# Altium footprint library Аналоговые-mm.PcbLib: 44 footprints (part 1 of 3)
Each footprint in its own frame and in the unit in brackets; x right, y up, seen from the top. Pads: shape width x height; smd on the part's side, far side on the other; paste and mask are expansions set on the pad; w line width, h text height; cw(c..) or ccw(c..) is an arc to the next point about the centre after c.
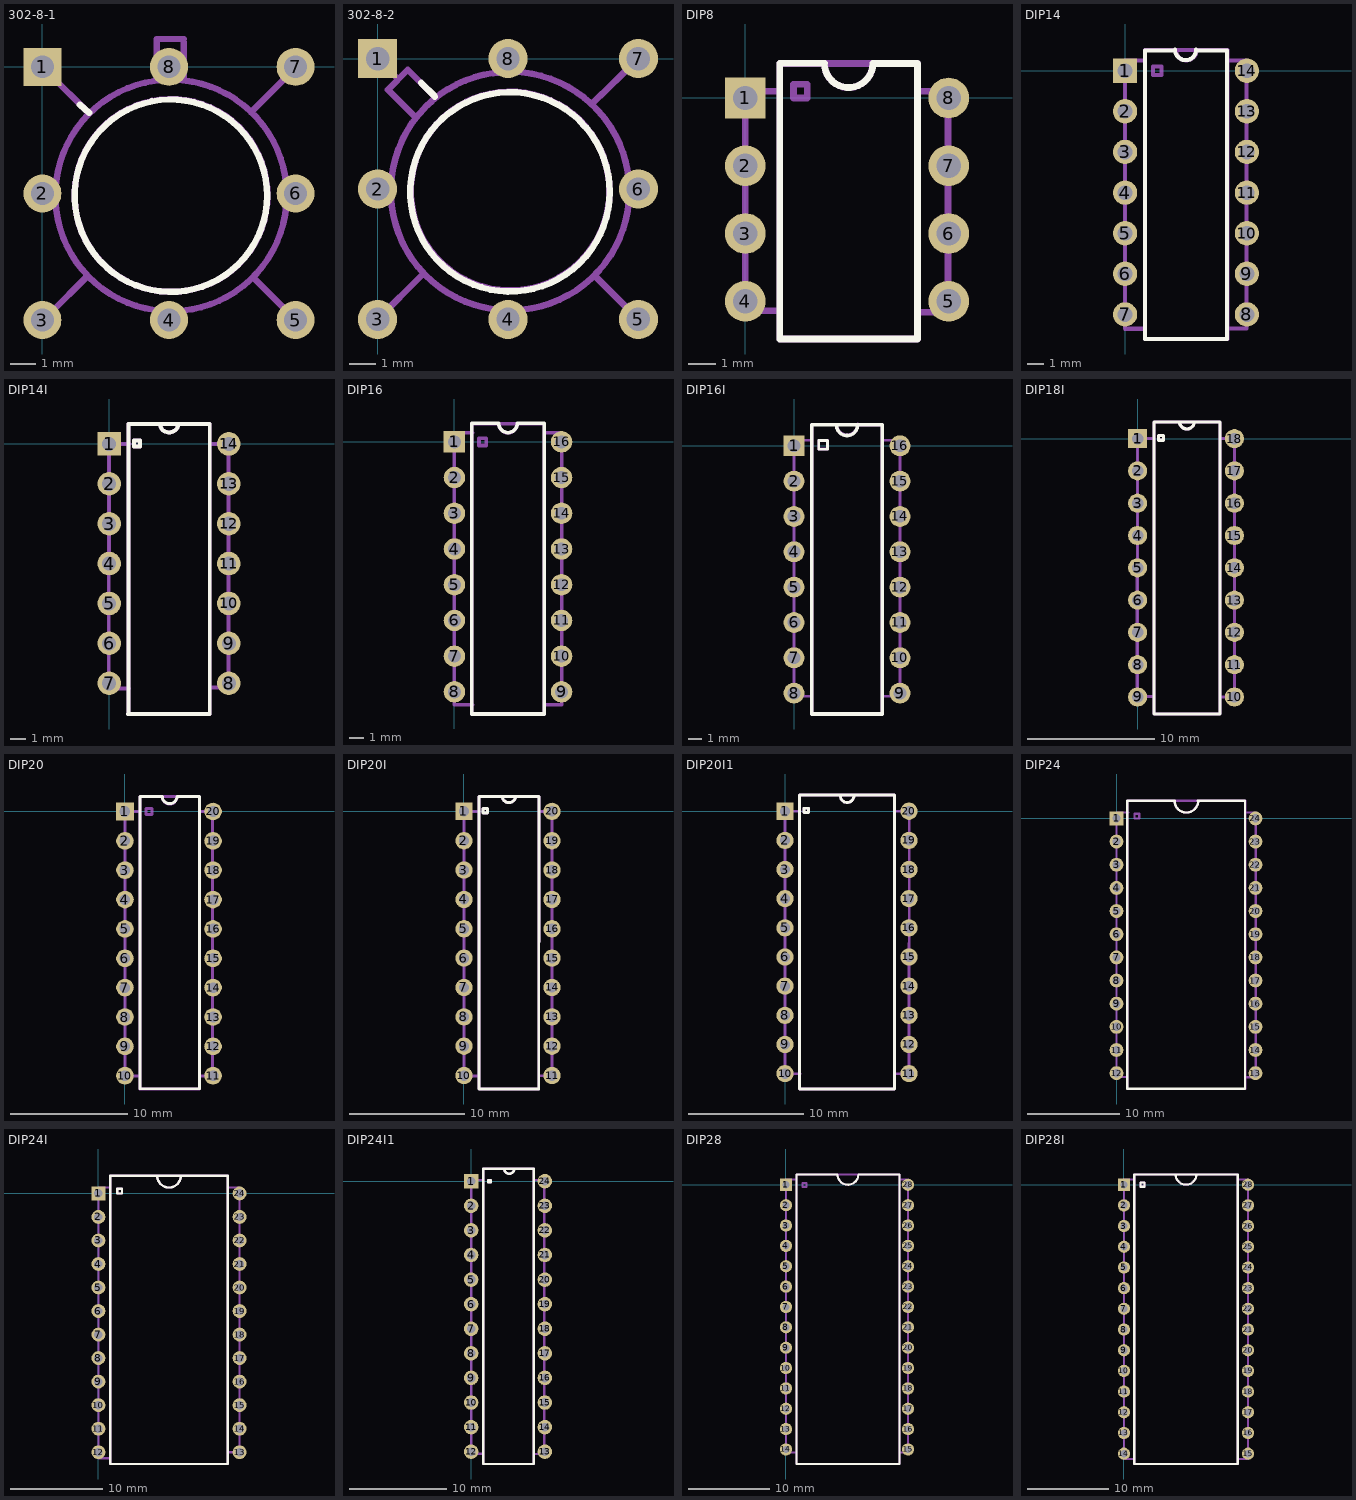
[diagram p0: the footprints below, top view; thin cyan lines are the x and y axes]

## 302-8-1 [mm]
pads (8):
  rect 1.5x1.5 hole 0.9: 1(0,0)
  round 1.5 hole 0.9: 2(0,-5) 3(0,-10) 4(5,-10) 5(10,-10) 6(10,-5) 7(10,0) 8(5,0)
Top Overlay:
  circle w0.25: c5.075,-5.09 r3.8
  lines w0.25: 1.475,-1.495 1.85,-1.82
Mechanical 1:
  circle w0.25: c5.08,-5.08 r4.572
  circle w0.25: c5.08,-5.08 r3.81
  lines w0.25: 0.22,-5.08 0.45,-5.08 ; 0.27,-0.27 1.84,-1.84 ; 0.29,-9.75 1.78,-8.26 ; 4.51,-0.409 4.51,1.099 5.588,1.099 ; 5,-0.51 5.01,-0.24 ; 5.03,-9.92 5.03,-9.67 ; 5.588,-0.464 5.588,0.972 ; 8.24,-1.79 9.76,-0.27 ; 8.32,-8.31 9.64,-9.63 ; 9.66,-5.03 9.85,-5.02

## 302-8-2 [mm]
pads (8):
  rect 1.5x1.5 hole 0.9: 1(0,0)
  round 1.5 hole 0.9: 2(0,-5) 3(0,-10) 4(5,-10) 5(10,-10) 6(10,-5) 7(10,0) 8(5,0)
Top Overlay:
  circle w0.25: c5.075,-5.11 r3.82
  lines w0.25: 1.67,-0.935 2.2,-1.455
Mechanical 1:
  circle w0.25: c5.08,-5.08 r4.572
  circle w0.25: c5.08,-5.08 r3.81
  lines w0.25: 0,-10 1.75,-8.25 ; 0,-5 0.45,-5 ; 0,0 0.79,-0.795 ; 1.466,-2.259 0.399,-1.192 1.161,-0.43 2.177,-1.446 ; 5,-10 5,-9.65 ; 5,-0.5 5,0 ; 8.2,-1.75 10,0 ; 8.35,-8.35 10,-10 ; 9.65,-5 10,-5

## DIP8 [mm]
pads (8):
  rect 1.5x1.5 hole 0.9: 1(0,0)
  round 1.5 hole 0.9: 2(0,-2.5) 3(0,-5) 4(0,-7.5) 5(7.5,-7.5) 6(7.5,-5) 7(7.5,-2.5) 8(7.5,0)
Top Overlay:
  lines w0.25: 2.915,1.28 ccw(c3.81,1.28) 4.705,1.28 ; 2.92,1.28 1.27,1.28 1.27,0.72 1.27,-8.89 1.275,-8.89 6.35,-8.89 6.35,-8.885 6.35,1.27 4.7,1.27
Mechanical 1:
  lines w0.25: -0.004,-7.874 -0.004,0.254 ; 0,-7.85 1.25,-7.85 ; 0,0.25 1.27,0.254 ; 2.921,1.272 ccw(c3.81,1.27) 4.699,1.27 ; 6.35,-7.9 7.45,-7.9 ; 6.35,0.254 7.45,0.25 ; 7.474,-7.874 7.474,0.254 ; 1.27,-8.89 6.35,-8.89 6.35,1.27 1.27,1.27 1.27,-8.89 ; 1.778,0 2.286,0 2.286,0.508 1.778,0.508 1.778,0

## DIP14 [mm]
pads (14):
  rect 1.5x1.5 hole 0.9: 1(0,0)
  round 1.5 hole 0.9: 2(0,-2.5) 3(0,-5) 4(0,-7.5) 5(0,-10) 6(0,-12.5) 7(0,-15) 8(7.5,-15) 9(7.5,-12.5) 10(7.5,-10) 11(7.5,-7.5) 12(7.5,-5) 13(7.5,-2.5) 14(7.5,0)
Top Overlay:
  lines w0.25: 3.075,1.25 1.225,1.25 1.225,-16.5 6.275,-16.5 6.275,1.25 4.375,1.25 ; 3.075,1.3 ccw(c3.725,1.3) 4.375,1.3
Mechanical 1:
  lines w0.25: 0,-15.88 1.22,-15.88 ; 0,-15.875 0,0.635 ; 0,0.64 1.22,0.64 ; 3.125,1.271 ccw(c3.76,1.27) 4.395,1.27 ; 6.31,-15.87 7.47,-15.87 ; 6.35,0.635 7.46,0.64 ; 7.47,-15.825 7.47,0.64 ; 1.22,-16.51 6.3,-16.51 6.3,1.27 1.22,1.27 1.22,-16.51 ; 1.728,-0.254 1.728,0.254 2.236,0.254 2.236,-0.254 1.728,-0.254

## DIP14I [mm]
pads (14):
  rect 1.5x1.5 hole 0.9: 1(0,0)
  round 1.5 hole 0.9: 2(0,-2.54) 3(0,-5.08) 4(0,-7.62) 5(0,-10.16) 6(0,-12.7) 7(0,-15.24) 8(7.62,-15.24) 9(7.62,-12.7) 10(7.62,-10.16) 11(7.62,-7.62) 12(7.62,-5.08) 13(7.62,-2.54) 14(7.62,0)
Top Overlay:
  lines w0.25: 1.2,-17.2 6.382,-17.2 ; 1.225,-17.2 1.225,1.265 6.407,1.265 6.407,-17.175 ; 3.232,1.239 ccw(c3.816,1.316) 4.4,1.237 ; 1.581,-0.157 1.581,0.224 1.962,0.224 1.962,-0.157 1.581,-0.157
Mechanical 1:
  lines w0.25: -0.025,-15.57 1.27,-15.57 ; -0.025,-15.519 0,0 1.295,0 ; 1.2,-17.2 6.382,-17.2 ; 1.225,-17.2 1.225,1.265 6.407,1.265 6.407,-17.175 ; 3.232,1.239 ccw(c3.816,1.316) 4.4,1.237 ; 6.477,0 7.6,0 ; 6.502,-15.519 7.59,-15.52 ; 7.6,0.01 7.602,-15.509 ; 1.581,-0.157 1.581,0.224 1.962,0.224 1.962,-0.157 1.581,-0.157

## DIP16 [mm]
pads (16):
  rect 1.5x1.5 hole 0.9: 1(0,0)
  round 1.5 hole 0.9: 2(0,-2.5) 3(0,-5) 4(0,-7.5) 5(0,-10) 6(0,-12.5) 7(0,-15) 8(0,-17.5) 9(7.5,-17.5) 10(7.5,-15) 11(7.5,-12.5) 12(7.5,-10) 13(7.5,-7.5) 14(7.5,-5) 15(7.5,-2.5) 16(7.5,0)
Top Overlay:
  lines w0.25: 1.2,-19.05 6.3,-19.05 6.3,1.3 4.4,1.3 cw(c3.75,1.3) 3.1,1.3 1.25,1.3 1.2,1.3 1.2,-19.05
Mechanical 1:
  lines w0.25: 1.27,-18.415 0,-18.415 0,0.635 1.27,0.635 ; 3.115,1.271 ccw(c3.75,1.27) 4.385,1.27 ; 6.31,-18.41 7.5,-18.41 ; 6.35,0.635 7.5,0.64 ; 7.5,-18.415 7.5,0.635 ; 1.21,-19.05 6.29,-19.05 6.29,1.27 1.21,1.27 1.21,-19.05 ; 1.718,-0.254 1.718,0.254 2.226,0.254 2.226,-0.254 1.718,-0.254

## DIP16I [mm]
pads (16):
  rect 1.5x1.5 hole 0.9: 1(0,0)
  round 1.5 hole 0.9: 2(0,-2.54) 3(0,-5.08) 4(0,-7.62) 5(0,-10.16) 6(0,-12.7) 7(0,-15.24) 8(0,-17.78) 9(7.62,-17.78) 10(7.62,-15.24) 11(7.62,-12.7) 12(7.62,-10.16) 13(7.62,-7.62) 14(7.62,-5.08) 15(7.62,-2.54) 16(7.62,0)
Top Overlay:
  lines w0.2: 1.778,-0.254 1.778,0.381 2.413,0.381 2.413,-0.254 1.778,-0.254
  lines w0.254: 3.048,1.5 ccw(c3.81,1.5) 4.572,1.5 6.35,1.5 6.35,-19.28 1.27,-19.28 1.27,1.5 4.572,1.524
Mechanical 1:
  lines w0.2: 1.275,-18.009 0.005,-18.009 0.005,0.406 1.275,0.406 ; 6.355,-18.009 7.625,-18.009 7.625,0.406 6.355,0.406 ; 1.783,-0.229 1.783,0.406 2.418,0.406 2.418,-0.229 1.783,-0.229
  lines w0.254: 3.053,1.525 ccw(c3.815,1.525) 4.577,1.525 6.355,1.525 6.355,-19.255 1.275,-19.255 1.275,1.525 4.577,1.549

## DIP18I [mm]
pads (18):
  rect 1.5x1.5 hole 0.9: 1(0,0)
  round 1.5 hole 0.9: 2(0,-2.54) 3(0,-5.08) 4(0,-7.62) 5(0,-10.16) 6(0,-12.7) 7(0,-15.24) 8(0,-17.78) 9(0,-20.32) 10(7.62,-20.32) 11(7.62,-17.78) 12(7.62,-15.24) 13(7.62,-12.7) 14(7.62,-10.16) 15(7.62,-7.62) 16(7.62,-5.08) 17(7.62,-2.54) 18(7.62,0)
Top Overlay:
  lines w0.25: 1.295,-21.658 6.477,-21.658 ; 1.3,-21.64 1.295,1.295 6.477,1.295 6.48,-21.64 ; 3.302,1.269 ccw(c3.886,1.346) 4.47,1.267 ; 1.651,-0.127 1.651,0.254 2.032,0.254 2.032,-0.127 1.651,-0.127
Mechanical 1:
  lines w0.25: -0.03,-20.29 0,0 1.295,0 ; -0.01,-20.293 1.285,-20.293 ; 1.295,-21.658 6.477,-21.658 ; 1.3,-21.64 1.295,1.295 6.477,1.295 6.48,-21.64 ; 3.302,1.269 ccw(c3.886,1.346) 4.47,1.267 ; 6.477,0 7.62,0 7.62,-20.32 ; 6.482,-20.323 7.6,-20.32 ; 1.651,-0.127 1.651,0.254 2.032,0.254 2.032,-0.127 1.651,-0.127

## DIP20 [mm]
pads (20):
  rect 1.5x1.5 hole 0.9: 1(0,0)
  round 1.5 hole 0.9: 2(0,-2.5) 3(0,-5) 4(0,-7.5) 5(0,-10) 6(0,-12.5) 7(0,-15) 8(0,-17.5) 9(0,-20) 10(0,-22.5) 11(7.5,-22.5) 12(7.5,-20) 13(7.5,-17.5) 14(7.5,-15) 15(7.5,-12.5) 16(7.5,-10) 17(7.5,-7.5) 18(7.5,-5) 19(7.5,-2.5) 20(7.5,0)
Top Overlay:
  lines w0.25: 1.28,-23.61 6.33,-23.61 6.33,1.29 4.43,1.29 cw(c3.805,1.29) 3.18,1.29 1.28,1.29 1.28,1.24 1.28,-23.61
Mechanical 1:
  lines w0.25: -0.01,-22.53 1.26,-22.53 ; 0,-22.51 0,0 1.27,0 ; 1.26,-23.63 6.34,-23.63 ; 1.27,-23.61 1.27,1.27 6.35,1.27 6.34,-23.61 ; 3.175,1.271 ccw(c3.81,1.27) 4.445,1.27 ; 6.34,-22.53 7.47,-22.53 ; 6.35,0 7.62,0 ; 7.46,-22.51 7.47,0.04 ; 1.778,-0.254 2.286,-0.254 2.286,0.254 1.778,0.254 1.778,-0.254

## DIP20I [mm]
pads (20):
  rect 1.5x1.5 hole 0.9: 1(0,0)
  round 1.5 hole 0.9: 2(0,-2.54) 3(0,-5.08) 4(0,-7.62) 5(0,-10.16) 6(0,-12.7) 7(0,-15.24) 8(0,-17.78) 9(0,-20.32) 10(0,-22.86) 11(7.62,-22.86) 12(7.62,-20.32) 13(7.62,-17.78) 14(7.62,-15.24) 15(7.62,-12.7) 16(7.62,-10.16) 17(7.62,-7.62) 18(7.62,-5.08) 19(7.62,-2.54) 20(7.62,0)
Top Overlay:
  lines w0.25: 1.285,-24.023 6.467,-24.023 ; 1.3,-23.99 1.295,1.295 6.477,1.295 6.47,-23.99 ; 3.302,1.269 ccw(c3.886,1.346) 4.47,1.267 ; 1.651,-0.127 1.651,0.254 2.032,0.254 2.032,-0.127 1.651,-0.127
Mechanical 1:
  lines w0.25: -0.01,-22.887 1.285,-22.887 ; 0,-22.9 0,0 1.295,0 ; 1.285,-24.023 6.467,-24.023 ; 1.3,-23.99 1.295,1.295 6.477,1.295 6.47,-23.99 ; 3.302,1.269 ccw(c3.886,1.346) 4.47,1.267 ; 6.467,-22.887 7.61,-22.88 7.61,0.01 ; 6.477,0 7.61,0 ; 1.651,-0.127 1.651,0.254 2.032,0.254 2.032,-0.127 1.651,-0.127

## DIP20I1 [mm]
pads (20):
  rect 1.5x1.5 hole 0.9: 1(0,0)
  round 1.5 hole 0.9: 2(0,-2.54) 3(0,-5.08) 4(0,-7.62) 5(0,-10.16) 6(0,-12.7) 7(0,-15.24) 8(0,-17.78) 9(0,-20.32) 10(0,-22.86) 11(10.795,-22.86) 12(10.795,-20.32) 13(10.795,-17.78) 14(10.795,-15.24) 15(10.795,-12.7) 16(10.795,-10.16) 17(10.795,-7.62) 18(10.795,-5.08) 19(10.795,-2.54) 20(10.795,0)
Top Overlay:
  lines w0.25: 1.27,-24.2 1.27,1.397 9.525,1.397 9.52,-24.17 ; 1.27,-24.188 9.525,-24.188 ; 4.826,1.269 ccw(c5.41,1.346) 5.994,1.267 ; 1.651,-0.127 1.651,0.254 2.032,0.254 2.032,-0.127 1.651,-0.127
Mechanical 1:
  lines w0.25: 0,-22.87 0,0 1.295,0 ; 0,-22.867 1.295,-22.867 ; 1.27,-24.2 1.27,1.397 9.525,1.397 9.52,-24.17 ; 1.27,-24.188 9.525,-24.188 ; 4.826,1.269 ccw(c5.41,1.346) 5.994,1.267 ; 9.525,-22.867 10.82,-22.867 ; 9.525,0 10.82,0 10.81,-22.87 ; 1.651,-0.127 1.651,0.254 2.032,0.254 2.032,-0.127 1.651,-0.127

## DIP24 [mm]
pads (24):
  rect 1.5x1.5 hole 0.9: 1(0,0)
  round 1.5 hole 0.9: 2(0,-2.5) 3(0,-5) 4(0,-7.5) 5(0,-10) 6(0,-12.5) 7(0,-15) 8(0,-17.5) 9(0,-20) 10(0,-22.5) 11(0,-25) 12(0,-27.5) 13(15,-27.5) 14(15,-25) 15(15,-22.5) 16(15,-20) 17(15,-17.5) 18(15,-15) 19(15,-12.5) 20(15,-10) 21(15,-7.5) 22(15,-5) 23(15,-2.5) 24(15,0)
Top Overlay:
  lines w0.25: 8.77,1.9 13.87,1.9 13.87,-28.5 13.87,-29.2 1.17,-29.2 1.17,1.8 1.17,1.9 6.27,1.9 ccw(c7.545,1.9) 8.82,1.9
Mechanical 1:
  lines w0.25: -0.02,-27.915 1.17,-27.92 ; 0,-27.92 0,0.635 1.27,0.635 ; 1.18,1.778 1.18,1.27 1.18,-29.21 13.88,-29.21 13.88,1.778 ; 1.18,1.905 13.88,1.905 13.88,1.27 ; 6.26,1.907 ccw(c7.53,1.905) 8.8,1.905 ; 13.97,-27.94 15.02,-27.94 15.02,0.635 ; 13.97,0.635 15.01,0.63 ; 1.942,0 2.45,0 2.45,0.508 1.942,0.508 1.942,0

## DIP24I [mm]
pads (24):
  rect 1.5x1.5 hole 0.9: 1(0,0)
  round 1.5 hole 0.9: 2(0,-2.54) 3(0,-5.08) 4(0,-7.62) 5(0,-10.16) 6(0,-12.7) 7(0,-15.24) 8(0,-17.78) 9(0,-20.32) 10(0,-22.86) 11(0,-25.4) 12(0,-27.94) 13(15.24,-27.94) 14(15.24,-25.4) 15(15.24,-22.86) 16(15.24,-20.32) 17(15.24,-17.78) 18(15.24,-15.24) 19(15.24,-12.7) 20(15.24,-10.16) 21(15.24,-7.62) 22(15.24,-5.08) 23(15.24,-2.54) 24(15.24,0)
Top Overlay:
  lines w0.25: 1.27,1.778 1.27,1.27 1.27,-29.21 13.97,-29.21 13.97,1.778 ; 1.27,1.905 13.97,1.905 13.97,1.27 ; 6.35,1.907 ccw(c7.62,1.905) 8.89,1.905 ; 2.032,0 2.54,0 2.54,0.508 2.032,0.508 2.032,0
Mechanical 1:
  lines w0.25: 1.27,-28.575 0,-28.575 0,0.635 1.27,0.635 ; 1.27,1.778 1.27,1.27 1.27,-29.21 13.97,-29.21 13.97,1.778 ; 1.27,1.905 13.97,1.905 13.97,1.27 ; 6.35,1.907 ccw(c7.62,1.905) 8.89,1.905 ; 13.97,-27.94 15.24,-27.94 15.24,0.635 13.97,0.635 ; 2.032,0 2.54,0 2.54,0.508 2.032,0.508 2.032,0

## DIP24I1 [mm]
pads (24):
  rect 1.5x1.5 hole 0.9: 1(0,0)
  round 1.5 hole 0.9: 2(0,-2.54) 3(0,-5.08) 4(0,-7.62) 5(0,-10.16) 6(0,-12.7) 7(0,-15.24) 8(0,-17.78) 9(0,-20.32) 10(0,-22.86) 11(0,-25.4) 12(0,-27.94) 13(7.62,-27.94) 14(7.62,-25.4) 15(7.62,-22.86) 16(7.62,-20.32) 17(7.62,-17.78) 18(7.62,-15.24) 19(7.62,-12.7) 20(7.62,-10.16) 21(7.62,-7.62) 22(7.62,-5.08) 23(7.62,-2.54) 24(7.62,0)
Top Overlay:
  lines w0.25: 3.429,1.271 ccw(c3.937,1.27) 4.445,1.27 ; 1.27,-29.21 6.477,-29.21 6.477,1.27 1.27,1.27 1.27,-29.21 ; 1.778,-0.127 1.778,0.127 2.032,0.127 2.032,-0.127 1.778,-0.127
Mechanical 1:
  lines w0.25: 0,-28.148 1.27,-28.148 ; 0.01,-28.15 0,0.127 1.27,0.127 ; 3.429,1.271 ccw(c3.937,1.27) 4.445,1.27 ; 6.477,-28.178 7.56,-28.17 ; 6.477,0.127 7.56,0.13 7.56,-28.16 ; 1.27,-29.21 6.477,-29.21 6.477,1.27 1.27,1.27 1.27,-29.21 ; 1.778,-0.127 1.778,0.127 2.032,0.127 2.032,-0.127 1.778,-0.127

## DIP28 [mm]
pads (28):
  rect 1.5x1.5 hole 0.9: 1(0,0)
  round 1.5 hole 0.9: 2(0,-2.5) 3(0,-5) 4(0,-7.5) 5(0,-10) 6(0,-12.5) 7(0,-15) 8(0,-17.5) 9(0,-20) 10(0,-22.5) 11(0,-25) 12(0,-27.5) 13(0,-30) 14(0,-32.5) 15(15,-32.5) 16(15,-30) 17(15,-27.5) 18(15,-25) 19(15,-22.5) 20(15,-20) 21(15,-17.5) 22(15,-15) 23(15,-12.5) 24(15,-10) 25(15,-7.5) 26(15,-5) 27(15,-2.5) 28(15,0)
Top Overlay:
  lines w0.25: 8.895,1.26 13.97,1.26 13.97,-34.265 13.97,-34.29 1.27,-34.29 1.27,1.26 1.27,1.285 6.345,1.285 ccw(c7.62,1.285) 8.895,1.261
Mechanical 1:
  lines w0.25: -0.02,-32.88 0,0.635 1.27,0.635 ; -0.01,-32.905 1.26,-32.905 ; 6.35,1.272 ccw(c7.62,1.27) 8.89,1.27 ; 13.97,-32.895 15.01,-32.9 ; 13.97,0.635 15.01,0.64 ; 15.02,-32.88 15.02,0.635 ; 1.27,-34.29 13.97,-34.29 13.97,1.27 1.27,1.27 1.27,-34.29 ; 2.032,-0.254 2.032,0.254 2.54,0.254 2.54,-0.254 2.032,-0.254

## DIP28I [mm]
pads (28):
  rect 1.5x1.5 hole 0.9: 1(0,0)
  round 1.5 hole 0.9: 2(0,-2.54) 3(0,-5.08) 4(0,-7.62) 5(0,-10.16) 6(0,-12.7) 7(0,-15.24) 8(0,-17.78) 9(0,-20.32) 10(0,-22.86) 11(0,-25.4) 12(0,-27.94) 13(0,-30.48) 14(0,-33.02) 15(15.24,-33.02) 16(15.24,-30.48) 17(15.24,-27.94) 18(15.24,-25.4) 19(15.24,-22.86) 20(15.24,-20.32) 21(15.24,-17.78) 22(15.24,-15.24) 23(15.24,-12.7) 24(15.24,-10.16) 25(15.24,-7.62) 26(15.24,-5.08) 27(15.24,-2.54) 28(15.24,0)
Top Overlay:
  lines w0.254: 6.35,1.272 ccw(c7.62,1.27) 8.89,1.27 ; 1.27,-34.29 13.97,-34.29 13.97,1.27 1.27,1.27 1.27,-34.29 ; 2.032,-0.254 2.032,0.254 2.54,0.254 2.54,-0.254 2.032,-0.254
Mechanical 1:
  lines w0.254: 1.27,-33.655 0,-33.655 0,0.635 1.27,0.635 ; 6.35,1.272 ccw(c7.62,1.27) 8.89,1.27 ; 13.97,-33.655 15.24,-33.655 15.24,0.635 13.97,0.635 ; 1.27,-34.29 13.97,-34.29 13.97,1.27 1.27,1.27 1.27,-34.29 ; 2.032,-0.254 2.032,0.254 2.54,0.254 2.54,-0.254 2.032,-0.254